# Altium schematic symbol library nuc972lib.SchLib: 1 symbol
Pins are listed as number, name and electrical type; pins without a type are passive.

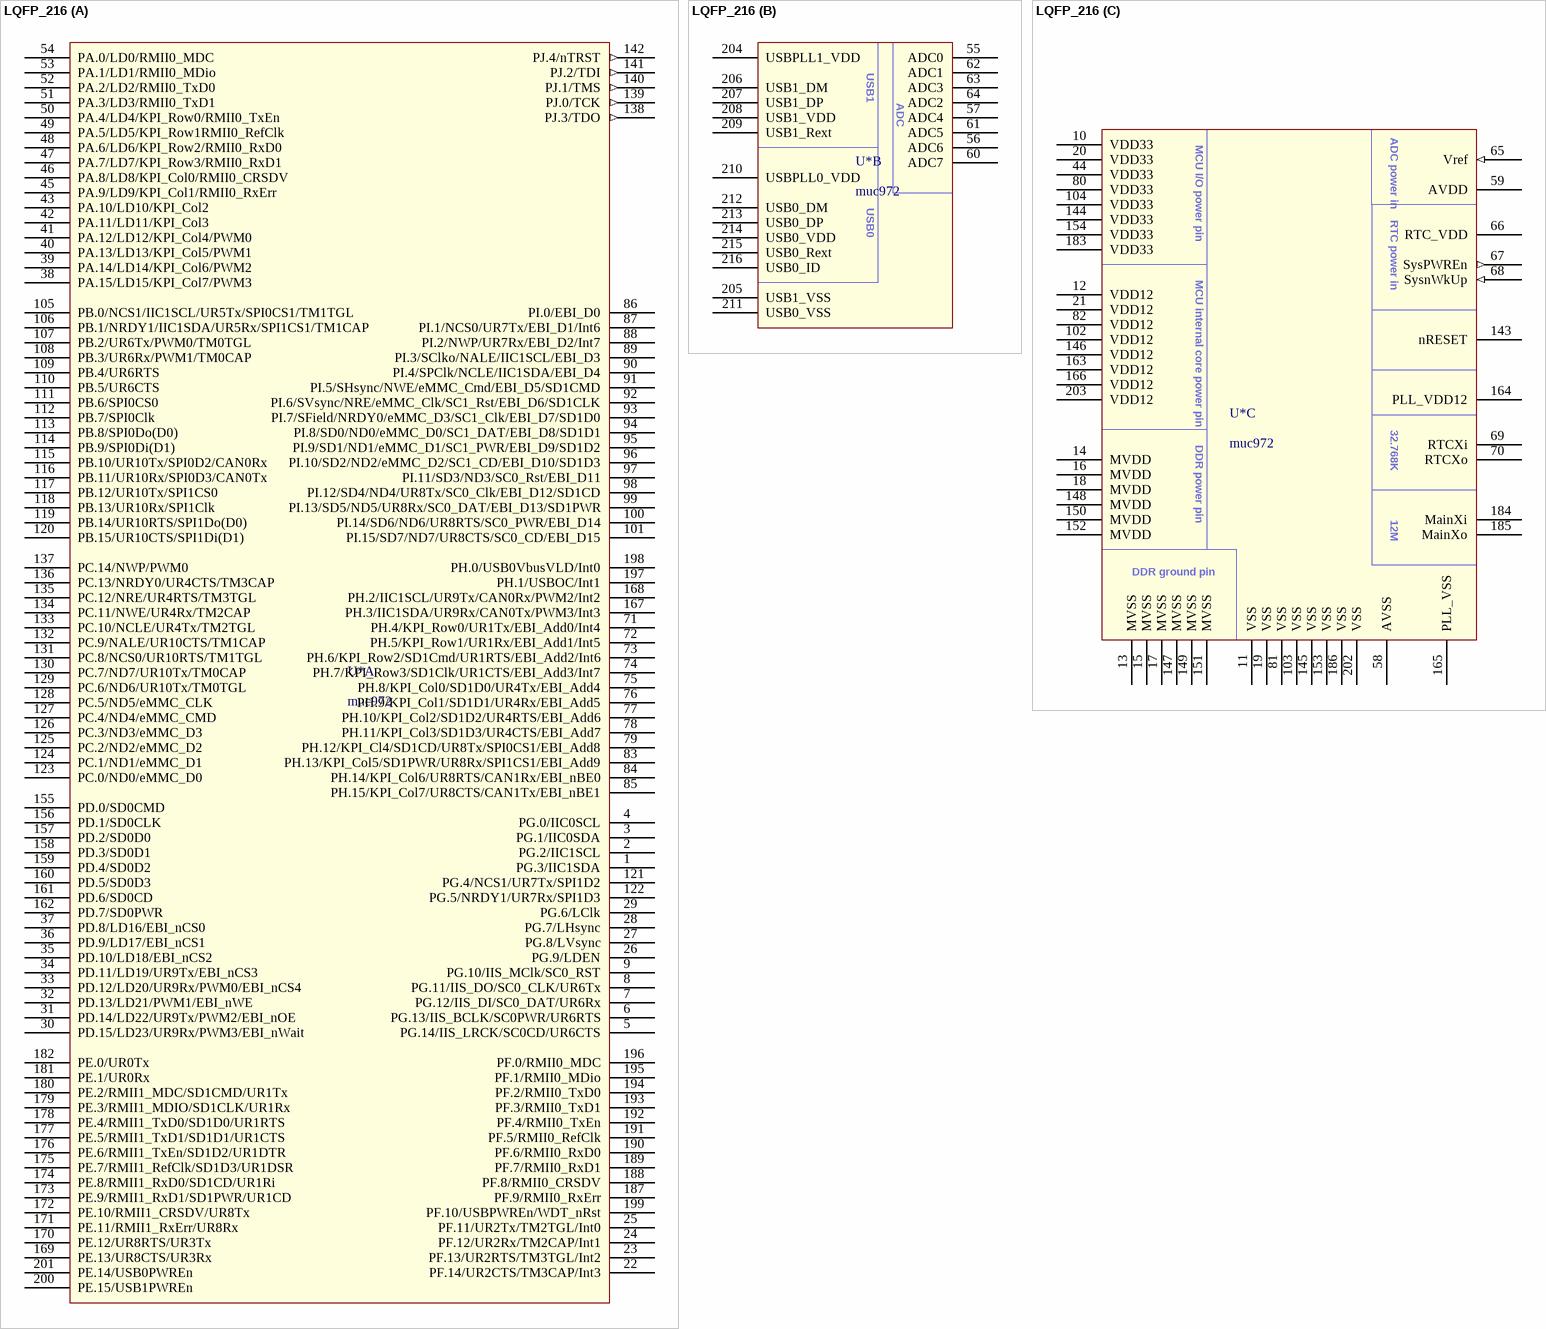
[diagram p0: symbol LQFP_216]

## LQFP_216
designator U*, comment muc972
footprint LQFP_216
part A pins: 1 PG.3/IIC1SDA, 2 PG.2/IIC1SCL, 3 PG.1/IIC0SDA, 4 PG.0/IIC0SCL, 5 PG.14/IIS_LRCK/SC0CD/UR6CTS, 6 PG.13/IIS_BCLK/SC0PWR/UR6RTS, 7 PG.12/IIS_DI/SC0_DAT/UR6Rx, 8 PG.11/IIS_DO/SC0_CLK/UR6Tx, 9 PG.10/IIS_MClk/SC0_RST, 22 PF.14/UR2CTS/TM3CAP/Int3, 23 PF.13/UR2RTS/TM3TGL/Int2, 24 PF.12/UR2Rx/TM2CAP/Int1, 25 PF.11/UR2Tx/TM2TGL/Int0, 26 PG.9/LDEN, 27 PG.8/LVsync, 28 PG.7/LHsync, 29 PG.6/LClk, 30 PD.15/LD23/UR9Rx/PWM3/EBI_nWait, 31 PD.14/LD22/UR9Tx/PWM2/EBI_nOE, 32 PD.13/LD21/PWM1/EBI_nWE, 33 PD.12/LD20/UR9Rx/PWM0/EBI_nCS4, 34 PD.11/LD19/UR9Tx/EBI_nCS3, 35 PD.10/LD18/EBI_nCS2, 36 PD.9/LD17/EBI_nCS1, 37 PD.8/LD16/EBI_nCS0, 38 PA.15/LD15/KPI_Col7/PWM3, 39 PA.14/LD14/KPI_Col6/PWM2, 40 PA.13/LD13/KPI_Col5/PWM1, 41 PA.12/LD12/KPI_Col4/PWM0, 42 PA.11/LD11/KPI_Col3, 43 PA.10/LD10/KPI_Col2, 45 PA.9/LD9/KPI_Col1/RMII0_RxErr, 46 PA.8/LD8/KPI_Col0/RMII0_CRSDV, 47 PA.7/LD7/KPI_Row3/RMII0_RxD1, 48 PA.6/LD6/KPI_Row2/RMII0_RxD0, 49 PA.5/LD5/KPI_Row1RMII0_RefClk, 50 PA.4/LD4/KPI_Row0/RMII0_TxEn, 51 PA.3/LD3/RMII0_TxD1, 52 PA.2/LD2/RMII0_TxD0, 53 PA.1/LD1/RMII0_MDio, 54 PA.0/LD0/RMII0_MDC, 71 PH.4/KPI_Row0/UR1Tx/EBI_Add0/Int4, 72 PH.5/KPI_Row1/UR1Rx/EBI_Add1/Int5, 73 PH.6/KPI_Row2/SD1Cmd/UR1RTS/EBI_Add2/Int6, 74 PH.7/KPI_Row3/SD1Clk/UR1CTS/EBI_Add3/Int7, 75 PH.8/KPI_Col0/SD1D0/UR4Tx/EBI_Add4, 76 PH.9/KPI_Col1/SD1D1/UR4Rx/EBI_Add5, 77 PH.10/KPI_Col2/SD1D2/UR4RTS/EBI_Add6, 78 PH.11/KPI_Col3/SD1D3/UR4CTS/EBI_Add7, 79 PH.12/KPI_Cl4/SD1CD/UR8Tx/SPI0CS1/EBI_Add8, 83 PH.13/KPI_Col5/SD1PWR/UR8Rx/SPI1CS1/EBI_Add9, 84 PH.14/KPI_Col6/UR8RTS/CAN1Rx/EBI_nBE0, 85 PH.15/KPI_Col7/UR8CTS/CAN1Tx/EBI_nBE1, 86 PI.0/EBI_D0, 87 PI.1/NCS0/UR7Tx/EBI_D1/Int6, 88 PI.2/NWP/UR7Rx/EBI_D2/Int7, 89 PI.3/SClko/NALE/IIC1SCL/EBI_D3, 90 PI.4/SPClk/NCLE/IIC1SDA/EBI_D4, 91 PI.5/SHsync/NWE/eMMC_Cmd/EBI_D5/SD1CMD, 92 PI.6/SVsync/NRE/eMMC_Clk/SC1_Rst/EBI_D6/SD1CLK, 93 PI.7/SField/NRDY0/eMMC_D3/SC1_Clk/EBI_D7/SD1D0, 94 PI.8/SD0/ND0/eMMC_D0/SC1_DAT/EBI_D8/SD1D1, 95 PI.9/SD1/ND1/eMMC_D1/SC1_PWR/EBI_D9/SD1D2, 96 PI.10/SD2/ND2/eMMC_D2/SC1_CD/EBI_D10/SD1D3, 97 PI.11/SD3/ND3/SC0_Rst/EBI_D11, 98 PI.12/SD4/ND4/UR8Tx/SC0_Clk/EBI_D12/SD1CD, 99 PI.13/SD5/ND5/UR8Rx/SC0_DAT/EBI_D13/SD1PWR, 100 PI.14/SD6/ND6/UR8RTS/SC0_PWR/EBI_D14, 101 PI.15/SD7/ND7/UR8CTS/SC0_CD/EBI_D15, 105 PB.0/NCS1/IIC1SCL/UR5Tx/SPI0CS1/TM1TGL, 106 PB.1/NRDY1/IIC1SDA/UR5Rx/SPI1CS1/TM1CAP, 107 PB.2/UR6Tx/PWM0/TM0TGL, 108 PB.3/UR6Rx/PWM1/TM0CAP, 109 PB.4/UR6RTS, 110 PB.5/UR6CTS, 111 PB.6/SPI0CS0, 112 PB.7/SPI0Clk, 113 PB.8/SPI0Do(D0), 114 PB.9/SPI0Di(D1), 115 PB.10/UR10Tx/SPI0D2/CAN0Rx, 116 PB.11/UR10Rx/SPI0D3/CAN0Tx, 117 PB.12/UR10Tx/SPI1CS0, 118 PB.13/UR10Rx/SPI1Clk, 119 PB.14/UR10RTS/SPI1Do(D0), 120 PB.15/UR10CTS/SPI1Di(D1), 121 PG.4/NCS1/UR7Tx/SPI1D2, 122 PG.5/NRDY1/UR7Rx/SPI1D3, 123 PC.0/ND0/eMMC_D0, 124 PC.1/ND1/eMMC_D1, 125 PC.2/ND2/eMMC_D2, 126 PC.3/ND3/eMMC_D3, 127 PC.4/ND4/eMMC_CMD, 128 PC.5/ND5/eMMC_CLK, 129 PC.6/ND6/UR10Tx/TM0TGL, 130 PC.7/ND7/UR10Tx/TM0CAP, 131 PC.8/NCS0/UR10RTS/TM1TGL, 132 PC.9/NALE/UR10CTS/TM1CAP, 133 PC.10/NCLE/UR4Tx/TM2TGL, 134 PC.11/NWE/UR4Rx/TM2CAP, 135 PC.12/NRE/UR4RTS/TM3TGL, 136 PC.13/NRDY0/UR4CTS/TM3CAP, 137 PC.14/NWP/PWM0, 138 PJ.3/TDO (out), 139 PJ.0/TCK (out), 140 PJ.1/TMS (out), 141 PJ.2/TDI (out), 142 PJ.4/nTRST (out), 155 PD.0/SD0CMD, 156 PD.1/SD0CLK, 157 PD.2/SD0D0, 158 PD.3/SD0D1, 159 PD.4/SD0D2, 160 PD.5/SD0D3, 161 PD.6/SD0CD, 162 PD.7/SD0PWR, 167 PH.3/IIC1SDA/UR9Rx/CAN0Tx/PWM3/Int3, 168 PH.2/IIC1SCL/UR9Tx/CAN0Rx/PWM2/Int2, 169 PE.13/UR8CTS/UR3Rx, 170 PE.12/UR8RTS/UR3Tx, 171 PE.11/RMII1_RxErr/UR8Rx, 172 PE.10/RMII1_CRSDV/UR8Tx, 173 PE.9/RMII1_RxD1/SD1PWR/UR1CD, 174 PE.8/RMII1_RxD0/SD1CD/UR1Ri, 175 PE.7/RMII1_RefClk/SD1D3/UR1DSR, 176 PE.6/RMII1_TxEn/SD1D2/UR1DTR, 177 PE.5/RMII1_TxD1/SD1D1/UR1CTS, 178 PE.4/RMII1_TxD0/SD1D0/UR1RTS, 179 PE.3/RMII1_MDIO/SD1CLK/UR1Rx, 180 PE.2/RMII1_MDC/SD1CMD/UR1Tx, 181 PE.1/UR0Rx, 182 PE.0/UR0Tx, 187 PF.9/RMII0_RxErr, 188 PF.8/RMII0_CRSDV, 189 PF.7/RMII0_RxD1, 190 PF.6/RMII0_RxD0, 191 PF.5/RMII0_RefClk, 192 PF.4/RMII0_TxEn, 193 PF.3/RMII0_TxD1, 194 PF.2/RMII0_TxD0, 195 PF.1/RMII0_MDio, 196 PF.0/RMII0_MDC, 197 PH.1/USBOC/Int1, 198 PH.0/USB0VbusVLD/Int0, 199 PF.10/USBPWREn/WDT_nRst, 200 PE.15/USB1PWREn, 201 PE.14/USB0PWREn
part B pins: 55 ADC0, 56 ADC6, 57 ADC4, 60 ADC7, 61 ADC5, 62 ADC1, 63 ADC3, 64 ADC2, 204 USBPLL1_VDD (power), 205 USB1_VSS (power), 206 USB1_DM, 207 USB1_DP, 208 USB1_VDD (power), 209 USB1_Rext, 210 USBPLL0_VDD (power), 211 USB0_VSS, 212 USB0_DM, 213 USB0_DP, 214 USB0_VDD (power), 215 USB0_Rext, 216 USB0_ID
part C pins: 10 VDD33 (power), 11 VSS (power), 12 VDD12 (power), 13 MVSS (power), 14 MVDD (power), 15 MVSS (power), 16 MVDD (power), 17 MVSS (power), 18 MVDD (power), 19 VSS (power), 20 VDD33 (power), 21 VDD12 (power), 44 VDD33 (power), 58 AVSS, 59 AVDD, 65 Vref (in), 66 RTC_VDD (power), 67 SysPWREn (out), 68 SysnWkUp (in), 69 RTCXi, 70 RTCXo, 80 VDD33 (power), 81 VSS (power), 82 VDD12 (power), 102 VDD12 (power), 103 VSS (power), 104 VDD33 (power), 143 nRESET, 144 VDD33 (power), 145 VSS (power), 146 VDD12 (power), 147 MVSS (power), 148 MVDD (power), 149 MVSS (power), 150 MVDD (power), 151 MVSS (power), 152 MVDD (power), 153 VSS (power), 154 VDD33 (power), 163 VDD12 (power), 164 PLL_VDD12 (power), 165 PLL_VSS (power), 166 VDD12 (power), 183 VDD33 (power), 184 MainXi, 185 MainXo, 186 VSS (power), 202 VSS (power), 203 VDD12 (power)
part B text: USB1; ADC; USB0
part C text: ADC power in; MCU I/O power pin; RTC power in; MCU internal core power pin; 32.768K; DDR power pin; 12M; DDR ground pin